# Altium footprint library Inductor.PcbLib: 1 footprints
Each footprint in its own frame and in the unit in brackets; x right, y up, seen from the top. Pads: shape width x height; smd on the part's side, far side on the other; paste and mask are expansions set on the pad; w line width, h text height; cw(c..) or ccw(c..) is an arc to the next point about the centre after c.
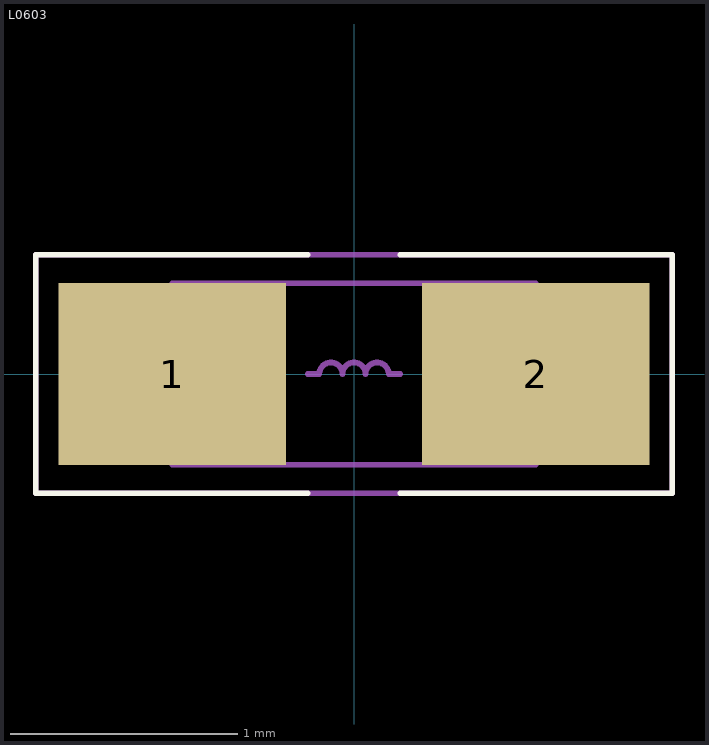
[diagram p0: the footprint, top view; thin cyan lines are the x and y axes]

## L0603 [mm] "0603 SMD Inductor"
pads (2):
  rect 1x0.8 smd mask+0.102: 1(-0.8,0)
  rect 1x0.8 smd: 2(0.8,0)
Top Overlay:
  lines w0.025: -0.203,-0.525 -1.3,-0.525 -1.4,-0.525 -1.4,0.525 -1.3,0.525 -0.203,0.525 ; 0.203,-0.525 1.3,-0.525 1.4,-0.525 1.4,0.525 1.3,0.525 0.3,0.525 0.203,0.525
Mechanical 13:
  lines w0.025: -0.203,0 -0.152,0 cw(c-0.102,0) -0.051,0 cw(c0,0) 0.051,0 cw(c0.102,0) 0.152,0 0.203,0 ; -0.8,-0.4 0.8,-0.4 0.8,0.4 -0.8,0.4 -0.8,-0.4
Mechanical 15:
  lines w0.025: 0.3,0.525 1.3,0.525 ; 1.3,0.525 -1.3,0.525 -1.4,0.525 -1.4,-0.525 -1.3,-0.525 1.3,-0.525 1.4,-0.525 1.4,0.525 1.3,0.525
3D body "RES0603.stp": height 0.45, standoff 0, extent -0.8,-0.4 0.8,0.4